# EAGLE library part 2420-15? (library con-wieson-2420)
2.0mm 2420-15 - 15 pin Source: http://www.jm.pl/karty/2420-XXXT1X-C.pdf
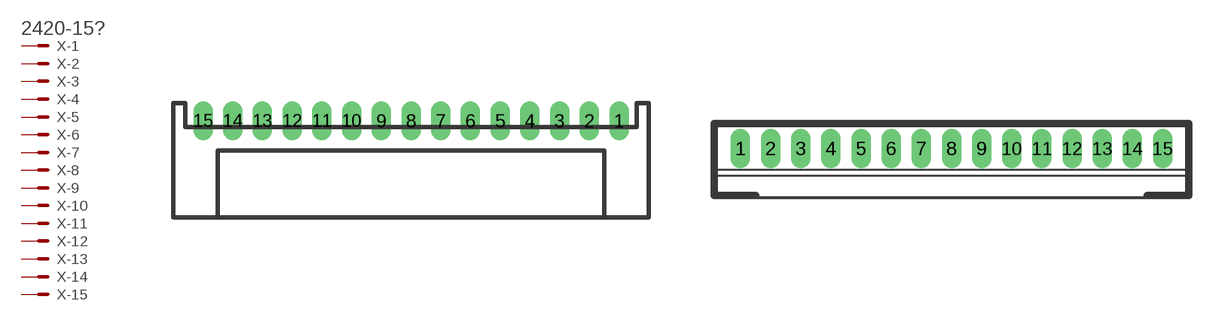
[diagram p2: symbol with the pads of 2420-15R; footprints 2420-15R, 2420-15S]

Designator prefix X; gates -1=MV -2=M -3=M -4=M -5=M -6=M -7=M -8=M -9=M -10=M -11=M -12=M -13=M -14=M -15=M

## 2420-15R  [2420-15R]
1  -1:>NAME$
2  -2:>NAME$
3  -3:>NAME$
4  -4:>NAME$
5  -5:>NAME$
6  -6:>NAME$
7  -7:>NAME$
8  -8:>NAME$
9  -9:>NAME$
10  -10:>NAME$
11  -11:>NAME$
12  -12:>NAME$
13  -13:>NAME$
14  -14:>NAME$
15  -15:>NAME$

## 2420-15S  [2420-15S]
Pads as for 2420-15R

## Footprint 2420-15R (pad centres in mm)
2.0mm right angle 2420-15 - 15 pin Source: http://www.jm.pl/karty/2420-XXXT1X-C.pdf
drill 0.8 long: 1 14,0; 2 12,0; 3 10,0; 4 8,0; 5 6,0; 6 4,0; 7 2,0; 8 0,0; 9 -2,0; 10 -4,0; 11 -6,0; 12 -8,0; 13 -10,0; 14 -12,0; 15 -14,0

## Footprint 2420-15S (pad centres in mm)
2.0mm straight 2420-15 - 15 pin Source: http://www.jm.pl/karty/2420-XXXT1X-C.pdf
drill 0.8 long: 1 -14,0; 2 -12,0; 3 -10,0; 4 -8,0; 5 -6,0; 6 -4,0; 7 -2,0; 8 0,0; 9 2,0; 10 4,0; 11 6,0; 12 8,0; 13 10,0; 14 12,0; 15 14,0